# Altium footprint library sucaiku.PcbLib: 35 footprints (part 2 of 3)
Each footprint in its own frame and in the unit in brackets; x right, y up, seen from the top. Pads: shape width x height; smd on the part's side, far side on the other; paste and mask are expansions set on the pad; w line width, h text height; cw(c..) or ccw(c..) is an arc to the next point about the centre after c.
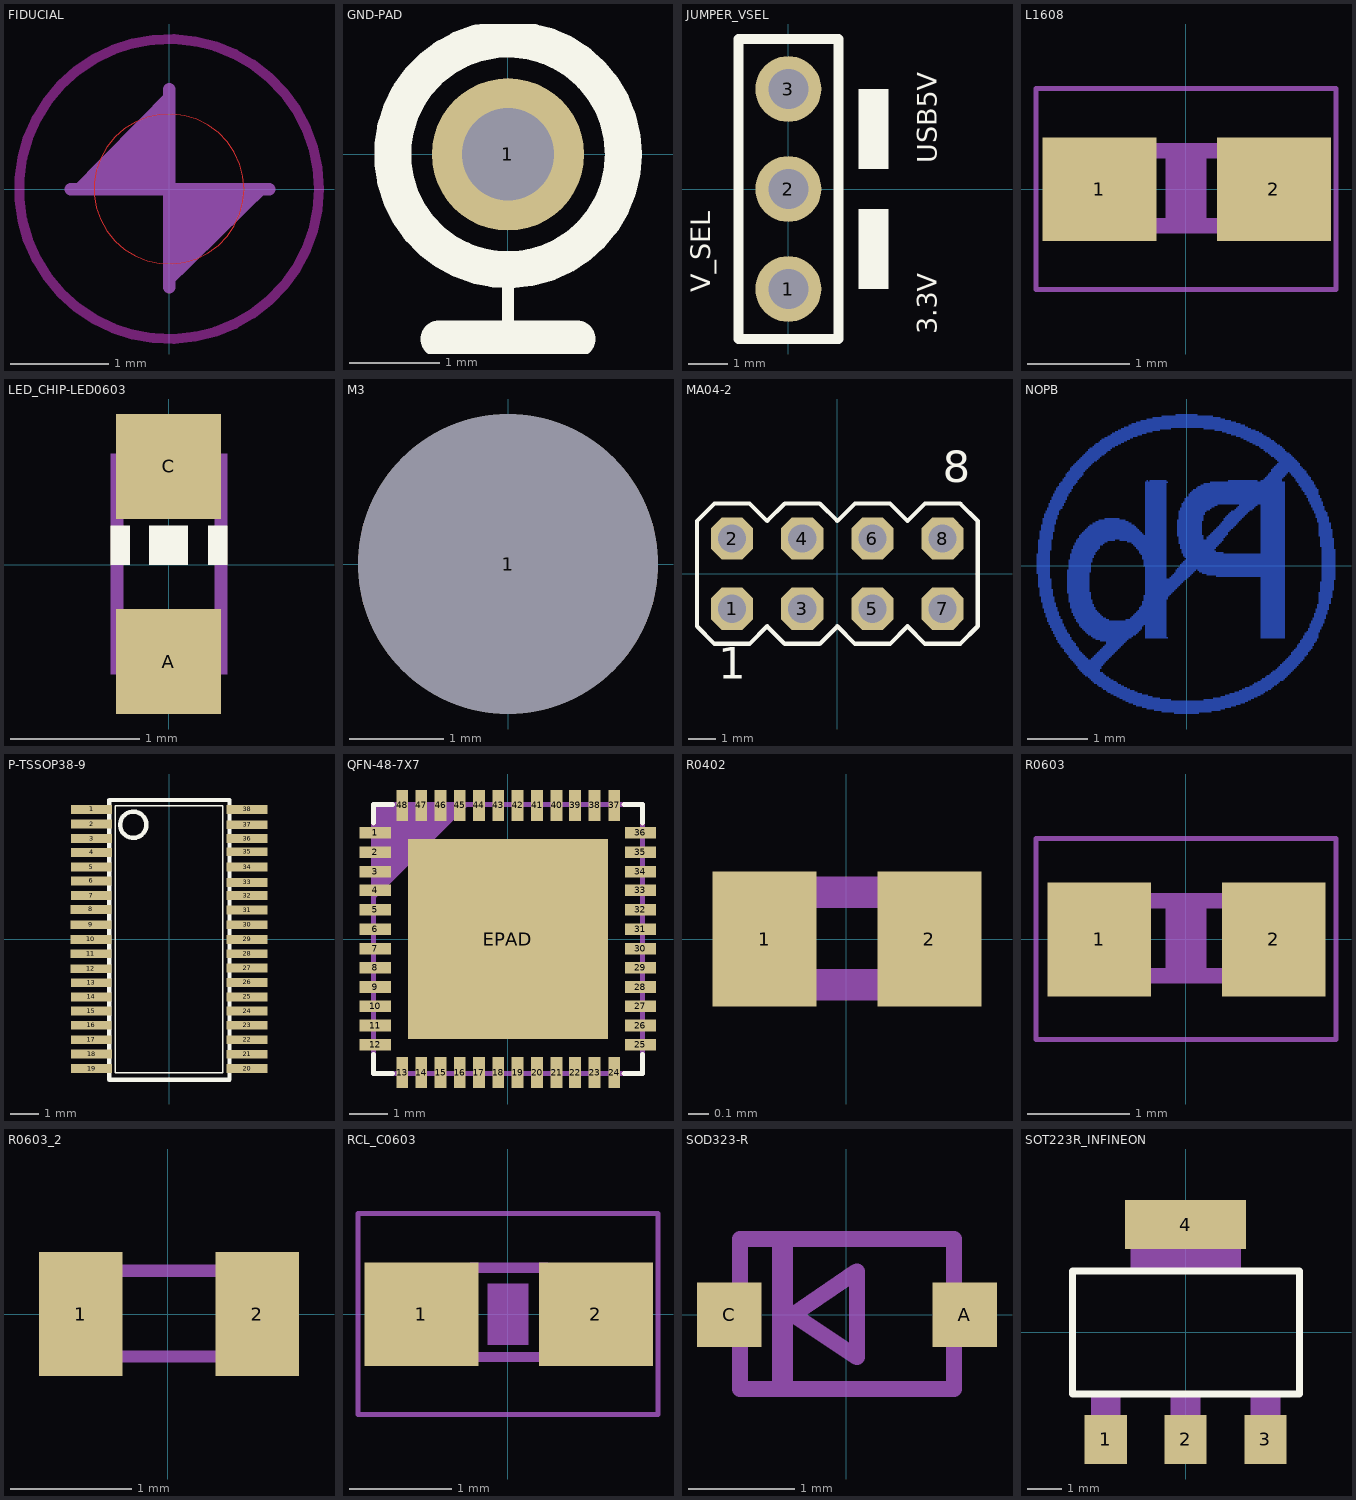
[diagram p1: the footprints below, top view; thin cyan lines are the x and y axes]

## FIDUCIAL [mil] "FIDUCIAL"
Top Layer:
  circle w0: c0,0 r30
Top Layer keep-out:
  circle w4: c0,0 r60
Top Solder:
  circle w0: c0,0 r60
Mechanical 16:
  region: -39.37,0 0,40 0,0
  region: 0,-39.37 40,0 0,0
  lines w5: -39.37,0 40,0 ; 0,-39.37 0,40

## GND-PAD [mil] "GND-PAD"
pads (1):
  round 66 hole 40: 1(0,0)
Top Overlay:
  circle w16: c0,0 r50
  lines w5: 0,-80 0,-45
  lines w16: -30,-80 30,-80
Mechanical 16:
  rectangle: -10,-10 10,10

## JUMPER_VSEL [mil] "JUMPER_VSEL"
pads (3):
  round 66 hole 40: 1(0,-100) 2(0,0) 3(0,100)
Top Overlay:
  region: 100,20 100,100 70,100 70,20
  region: 100,-100 100,-20 70,-20 70,-100
  lines w10: -50,-150 50,-150 50,150 -50,150 -50,-150
  text "V_SEL" at -71.53,-103.48 h34
  text "USB5V" at 155,26 h34
  text "3.3V" at 155,-145 h34
Mechanical 16:
  region: -10,10 -10,-10 10,-10 10,10
  region: -10,-90 -10,-110 10,-110 10,-90
  region: -10,110 -10,90 10,90 10,110

## L1608 [mil] "L1608"
pads (2):
  rect 44x40 smd: 1(-33.46,0) 2(34,0)
Mechanical 6:
  rectangle: -7.87,-15.75 8,16
Mechanical 16:
  rectangle: 17,-17 33,17
  rectangle: -33,-17 -17,17
  lines w6: -17.01,-14.02 18,-14.02 ; -17.01,15 18,15
Mechanical 27:
  lines w2: -57.99,-38.7 58,-38.7 58,39 -57.99,39 -57.99,-38.7

## LED_CHIP-LED0603 [mil] "LED_CHIP-LED0603"
pads (2):
  rect 32x32 smd: A(0,-29.53) C(0,30)
Top Overlay:
  rectangle: -17.72,0 -11.81,12
  rectangle: 12,0 18,12
  rectangle: -5.91,0 6,12
Mechanical 16:
  rectangle: -17.72,18 18,34
  rectangle: -17.72,-33.46 18,-17.72
  lines w4: -15.75,-17.72 -15.75,18 ; 16,-17.72 16,18

## M3 [mm]
pads (1):
  round 3.2 hole 3.2: 1(0,0)

## MA04-2 [mil] "MA04-2"
pads (8):
  oct 60x60 hole 40: 1(-150,-50) 2(-150,50) 3(-50,-50) 4(-50,50) 5(50,-50) 6(50,50) 7(150,-50) 8(150,50)
Top Overlay:
  lines w6: -200,-75 -200,75 -175,100 -125,100 -100,75 -75,100 -25,100 0,75 25,100 75,100 100,75 125,100 175,100 200,75 200,-75 175,-100 125,-100 100,-75 75,-100 25,-100 0,-75 -25,-100 -75,-100 -100,-75 -125,-100 -175,-100 -200,-75
  text "1" at -170,-165 h77.5
  text "8" at 150,115 h77.5
Mechanical 16:
  rectangle: -60,-60 -40,-40
  rectangle: -160,-60 -140,-40
  rectangle: 40,-60 60,-40
  rectangle: 140,-60 160,-40
  rectangle: -160,40 -140,60
  rectangle: -60,40 -40,60
  rectangle: 40,40 60,60
  rectangle: 140,40 160,60

## NOPB [mil] "NOPB"
Bottom Layer:
  rectangle: -8.49,-96.88 8,-95.9
  rectangle: -16.37,-95.89 16,-94.91
  rectangle: -21.28,-94.91 22,-93.93
  rectangle: -26.21,-93.93 25,-92.94
  rectangle: -29.16,-92.94 29,-91.96
  rectangle: -33.1,-91.96 32,-90.98
  rectangle: -35.06,-90.98 35,-89.99
  rectangle: -38.02,-89.99 38,-89
  rectangle: -39.98,-89.01 40,-88.02
  rectangle: -41.96,-88.02 -10.46,-87.04
  rectangle: 11,-88.02 42,-87.04
  rectangle: -43.93,-87.04 -17.35,-86.05
  rectangle: 17,-87.04 44,-86.05
  rectangle: -45.89,-86.06 -22.27,-85.07
  rectangle: 22,-86.05 46,-85.07
  rectangle: -47.86,-85.07 -25.22,-84.09
  rectangle: 25,-85.07 48,-84.08
  rectangle: -49.83,-84.08 -29.17,-83.1
  rectangle: 28,-84.09 50,-83.1
  rectangle: -51.8,-83.1 -32.12,-82.11
  rectangle: 31,-83.1 51,-82.11
  rectangle: -52.78,-82.12 -34.08,-81.13
  rectangle: 34,-82.11 53,-81.13
  rectangle: -54.75,-81.13 -37.04,-80.15
  rectangle: 36,-81.13 55,-80.15
  rectangle: -55.74,-80.15 -39.01,-79.16
  rectangle: 38,-80.15 56,-79.16
  rectangle: -57.7,-79.16 -40.97,-78.18
  rectangle: 41,-79.16 57,-78.18
  rectangle: -58.69,-78.18 -42.94,-77.2
  rectangle: 43,-78.18 59,-77.19
  rectangle: -60.66,-77.19 -44.91,-76.21
  rectangle: 44,-77.2 60,-76.21
  rectangle: -61.65,-76.21 -45.9,-75.23
  rectangle: 46,-76.21 61,-75.22
  rectangle: -62.63,-75.23 -47.86,-74.24
  rectangle: 48,-75.23 63,-74.24
  rectangle: -63.61,-74.25 -49.83,-73.26
  rectangle: 49,-74.24 64,-73.26
  rectangle: -64.59,-73.26 -50.81,-72.27
  rectangle: 51,-73.26 65,-72.28
  rectangle: -66.57,-72.28 -52.79,-71.29
  rectangle: 52,-72.28 66,-71.29
  rectangle: -67.54,-71.29 -53.76,-70.3
  rectangle: 54,-71.29 67,-70.31
  rectangle: -68.53,-70.31 -54.75,-69.32
  rectangle: 55,-70.3 68,-69.32
  rectangle: -69.52,-69.32 -56.72,-68.34
  rectangle: 56,-69.32 69,-68.33
  rectangle: -70.5,-68.34 -56.72,-67.35
  rectangle: 58,-68.34 70,-67.35
  rectangle: -71.48,-67.35 -55.74,-66.37
  rectangle: 59,-67.35 71,-66.37
  rectangle: -71.49,-66.37 -55.74,-65.39
  rectangle: 60,-66.37 72,-65.39
  rectangle: -72.47,-65.39 -54.76,-64.4
  rectangle: 61,-65.38 73,-64.4
  rectangle: -73.45,-64.4 -53.77,-63.42
  rectangle: 62,-64.4 74,-63.41
  rectangle: -74.44,-63.42 -52.78,-62.43
  rectangle: 63,-63.41 75,-62.43
  rectangle: -75.42,-62.43 -51.8,-61.45
  rectangle: 64,-62.43 76,-61.44
  rectangle: -76.41,-61.44 -64.59,-60.46
  rectangle: -62.62,-61.44 -50.81,-60.46
  rectangle: 65,-61.44 77,-60.46
  rectangle: -77.39,-60.46 -65.58,-59.48
  rectangle: -61.65,-60.46 -49.83,-59.48
  rectangle: 66,-60.46 77,-59.48
  rectangle: -77.39,-59.48 -66.56,-58.49
  rectangle: -60.65,-59.48 -48.84,-58.49
  rectangle: 67,-59.48 78,-58.49
  rectangle: -78.38,-58.49 -67.55,-57.51
  rectangle: -59.67,-58.5 -47.86,-57.51
  rectangle: 68,-58.49 79,-57.51
  rectangle: -79.36,-57.52 -68.54,-56.53
  rectangle: -58.69,-57.51 -46.87,-56.52
  rectangle: 68,-57.51 79,-56.53
  rectangle: -80.34,-56.53 -69.52,-55.54
  rectangle: -57.71,-56.53 -45.9,-55.54
  rectangle: 69,-56.52 80,-55.54
  rectangle: -80.34,-55.54 -70.5,-54.56
  rectangle: -56.72,-55.54 -44.91,-54.56
  rectangle: 70,-55.54 81,-54.56
  rectangle: -81.33,-54.56 -70.5,-53.57
  rectangle: -55.74,-54.56 -43.93,-53.57
  rectangle: 71,-54.56 82,-53.57
  rectangle: -82.31,-53.58 -71.49,-52.59
  rectangle: -54.75,-53.58 -42.94,-52.59
  rectangle: 72,-53.57 82,-52.59
  rectangle: -82.31,-52.59 -72.47,-51.6
  rectangle: -53.77,-52.59 -41.96,-51.6
  rectangle: 72,-52.59 83,-51.61
  rectangle: -83.3,-51.6 -72.47,-50.62
  rectangle: -52.78,-51.6 -40.97,-50.62
  rectangle: 73,-51.6 83,-50.61
  rectangle: -84.28,-50.62 -73.45,-49.64
  rectangle: -52.78,-50.62 -39.99,-49.64
  rectangle: 74,-50.62 84,-49.64
  rectangle: -84.28,-49.64 -74.44,-48.65
  rectangle: -56.72,-49.63 -39.01,-48.65
  rectangle: 74,-49.64 85,-48.65
  rectangle: -85.26,-48.65 -75.42,-47.67
  rectangle: -59.67,-48.65 -38.02,-47.67
  rectangle: 75,-48.65 85,-47.67
  rectangle: -85.26,-47.67 -75.42,-46.69
  rectangle: -61.64,-47.67 -36.05,-46.68
  rectangle: -27.19,-47.67 -12.43,-46.69
  rectangle: 48,-47.67 64,-46.68
  rectangle: 76,-47.67 86,-46.68
  rectangle: -86.25,-46.68 -76.41,-45.7
  rectangle: -62.63,-46.69 -35.07,-45.7
  rectangle: -27.2,-46.69 -13.42,-45.7
  rectangle: 48,-46.68 64,-45.7
  rectangle: 76,-46.69 86,-45.7
  rectangle: -86.25,-45.7 -76.41,-44.72
  rectangle: -64.59,-45.7 -33.09,-44.71
  rectangle: -27.2,-45.7 -13.42,-44.71
  rectangle: 48,-45.7 64,-44.72
  rectangle: 77,-45.7 86,-44.71
  rectangle: -87.23,-44.71 -77.39,-43.73
  rectangle: -65.58,-44.72 -32.11,-43.73
  rectangle: -27.2,-44.72 -13.42,-43.74
  rectangle: 48,-44.72 64,-43.73
  rectangle: 77,-44.71 86,-43.73
  rectangle: -87.23,-43.73 -78.37,-42.75
  rectangle: -66.56,-43.73 -31.13,-42.74
  rectangle: -27.19,-43.73 -13.41,-42.75
  rectangle: 48,-43.73 64,-42.74
  rectangle: 78,-43.74 87,-42.75
  rectangle: -88.22,-42.75 -78.37,-41.77
  rectangle: -67.55,-42.75 -30.15,-41.76
  rectangle: -27.2,-42.75 -13.42,-41.77
  rectangle: 48,-42.75 64,-41.76
  rectangle: 79,-42.74 87,-41.76
  rectangle: -88.22,-41.76 -79.36,-40.78
  rectangle: -68.53,-41.76 -29.16,-40.78
  rectangle: -27.2,-41.76 -13.42,-40.78
  rectangle: 48,-41.76 64,-40.78
  rectangle: 79,-41.76 88,-40.78
  rectangle: -89.2,-40.78 -79.36,-39.79
  rectangle: -69.52,-40.78 -29.17,-39.79
  rectangle: -27.19,-40.78 -13.41,-39.79
  rectangle: 48,-40.78 64,-39.79
  rectangle: 80,-40.78 88,-39.8
  rectangle: -89.2,-39.8 -80.35,-38.81
  rectangle: -70.5,-39.8 -28.18,-38.81
  rectangle: -27.19,-39.8 -13.41,-38.81
  rectangle: 48,-39.8 64,-38.81
  rectangle: 80,-39.8 89,-38.81
  rectangle: -90.19,-38.81 -80.34,-37.83
  rectangle: -70.5,-38.81 -13.41,-37.83
  rectangle: 48,-38.81 64,-37.83
  rectangle: 80,-38.81 89,-37.83
  rectangle: -90.19,-37.83 -81.33,-36.84
  rectangle: -71.48,-37.83 -13.41,-36.85
  rectangle: 48,-37.82 64,-36.84
  rectangle: 81,-37.82 90,-36.84
  rectangle: -91.17,-36.85 -81.33,-35.86
  rectangle: -72.47,-36.84 -13.41,-35.86
  rectangle: 48,-36.84 64,-35.85
  rectangle: 81,-36.84 90,-35.85
  rectangle: -91.17,-35.85 -81.33,-34.87
  rectangle: -72.47,-35.86 -50.82,-34.87
  rectangle: -39.99,-35.85 -13.41,-34.87
  rectangle: 48,-35.86 64,-34.87
  rectangle: 82,-35.86 90,-34.87
  rectangle: -91.17,-34.87 -82.31,-33.89
  rectangle: -73.45,-34.87 -52.78,-33.89
  rectangle: -37.04,-34.87 -13.41,-33.89
  rectangle: 48,-34.87 64,-33.89
  rectangle: 82,-34.87 91,-33.89
  rectangle: -92.15,-33.89 -82.31,-32.91
  rectangle: -73.45,-33.89 -54.75,-32.91
  rectangle: -36.05,-33.89 -13.41,-32.91
  rectangle: 48,-33.89 64,-32.9
  rectangle: 83,-33.89 91,-32.91
  rectangle: -92.15,-32.9 -83.29,-31.92
  rectangle: -74.44,-32.9 -55.74,-31.92
  rectangle: -35.07,-32.91 -13.42,-31.92
  rectangle: 48,-32.91 64,-31.92
  rectangle: 83,-32.9 91,-31.92
  rectangle: -92.15,-31.92 -83.3,-30.94
  rectangle: -74.44,-31.92 -56.72,-30.93
  rectangle: -34.08,-31.92 -13.41,-30.94
  rectangle: 48,-31.92 64,-30.94
  rectangle: 83,-31.92 92,-30.94
  rectangle: -93.14,-30.94 -83.3,-29.95
  rectangle: -75.43,-30.94 -57.71,-29.96
  rectangle: -33.1,-30.93 -13.41,-29.95
  rectangle: 48,-30.94 64,-29.95
  rectangle: 84,-30.94 92,-29.95
  rectangle: -93.14,-29.95 -84.28,-28.97
  rectangle: -75.43,-29.95 -58.69,-28.97
  rectangle: -32.11,-29.95 -13.41,-28.97
  rectangle: 48,-29.95 64,-28.97
  rectangle: 84,-29.96 92,-28.97
  rectangle: -93.14,-28.97 -84.28,-27.98
  rectangle: -75.42,-28.97 -59.67,-27.99
  rectangle: -31.13,-28.97 -13.42,-27.99
  rectangle: 48,-28.97 64,-27.98
  rectangle: 84,-28.97 93,-27.99
  rectangle: -94.12,-27.98 -84.28,-27
  rectangle: -76.41,-27.98 -59.68,-27
  rectangle: -31.13,-27.98 -13.42,-27
  rectangle: 48,-27.98 64,-27
  rectangle: 85,-27.98 93,-27
  rectangle: -94.12,-27 -85.26,-26.02
  rectangle: -76.41,-27 -60.66,-26.02
  rectangle: -30.14,-27 -13.41,-26.01
  rectangle: 48,-27 64,-26.01
  rectangle: 85,-27 93,-26.02
  rectangle: -94.12,-26.02 -85.26,-25.03
  rectangle: -76.41,-26.02 -60.66,-25.03
  rectangle: -29.16,-26.02 -13.41,-25.03
  rectangle: 48,-26.02 64,-25.03
  rectangle: 85,-26.02 93,-25.03
  rectangle: -94.12,-25.03 -85.26,-24.05
  rectangle: -76.41,-25.03 -61.64,-24.05
  rectangle: -29.16,-25.04 -13.41,-24.05
  rectangle: 48,-25.03 64,-24.05
  rectangle: 86,-25.03 94,-24.05
  rectangle: -95.11,-24.05 -86.25,-23.06
  rectangle: -77.39,-24.05 -61.64,-23.06
  rectangle: -29.16,-24.05 -13.41,-23.06
  rectangle: 48,-24.05 64,-23.06
  rectangle: 86,-24.05 94,-23.07
  rectangle: -95.11,-23.06 -86.25,-22.08
  rectangle: -77.39,-23.06 -61.65,-22.08
  rectangle: -28.18,-23.06 -13.41,-22.08
  rectangle: 48,-23.06 64,-22.08
  rectangle: 86,-23.06 94,-22.08
  rectangle: -95.11,-22.08 -86.25,-21.09
  rectangle: -77.39,-22.08 -62.63,-21.1
  rectangle: -28.18,-22.08 -12.43,-21.09
  rectangle: 48,-22.08 64,-21.09
  rectangle: 86,-22.08 94,-21.09
  rectangle: -95.11,-21.09 -86.25,-20.11
  rectangle: -77.39,-21.09 -62.63,-20.11
  rectangle: -28.18,-21.09 -12.43,-20.11
  rectangle: 48,-21.09 64,-20.11
  rectangle: 86,-21.09 95,-20.11
  rectangle: -96.09,-20.11 -87.23,-19.13
  rectangle: -77.38,-20.11 -62.62,-19.13
  rectangle: -28.18,-20.11 -11.44,-19.12
  rectangle: 48,-20.11 64,-19.13
  rectangle: 86,-20.1 95,-19.12
  rectangle: -96.09,-19.12 -87.24,-18.14
  rectangle: -77.39,-19.13 -62.63,-18.14
  rectangle: -27.19,-19.13 -10.46,-18.14
  rectangle: 48,-19.12 64,-18.14
  rectangle: 86,-19.13 95,-18.14
  rectangle: -96.09,-18.14 -87.23,-17.16
  rectangle: -78.38,-18.15 -62.63,-17.16
  rectangle: -27.2,-18.14 -9.48,-17.16
  rectangle: 48,-18.14 64,-17.16
  rectangle: 86,-18.14 95,-17.15
  rectangle: -96.09,-17.16 -87.23,-16.17
  rectangle: -78.37,-17.16 -63.61,-16.17
  rectangle: -27.19,-17.16 -8.49,-16.17
  rectangle: 48,-17.16 64,-16.17
  rectangle: 87,-17.16 95,-16.17
  rectangle: -96.09,-16.17 -87.23,-15.19
  rectangle: -78.37,-16.17 -63.61,-15.19
  rectangle: -27.19,-16.17 -7.51,-15.19
  rectangle: 48,-16.17 64,-15.19
  rectangle: 87,-16.17 96,-15.19
  rectangle: -96.09,-15.19 -88.22,-14.2
  rectangle: -78.37,-15.19 -63.61,-14.2
  rectangle: -27.19,-15.19 -6.52,-14.2
  rectangle: 48,-15.19 64,-14.2
  rectangle: 87,-15.19 96,-14.2
  rectangle: -97.07,-14.2 -88.22,-13.22
  rectangle: -78.37,-14.2 -63.61,-13.22
  rectangle: -27.2,-14.2 -5.54,-13.22
  rectangle: 48,-14.2 64,-13.22
  rectangle: 87,-14.2 96,-13.22
  rectangle: -97.07,-13.22 -88.22,-12.24
  rectangle: -78.38,-13.22 -63.61,-12.24
  rectangle: -27.19,-13.22 -4.56,-12.24
  rectangle: 48,-13.22 64,-12.24
  rectangle: 87,-13.22 96,-12.24
  rectangle: -97.07,-12.23 -88.22,-11.25
  rectangle: -78.38,-12.24 -63.61,-11.25
  rectangle: -27.19,-12.24 -3.57,-11.25
  rectangle: 48,-12.24 64,-11.25
  rectangle: 87,-12.23 96,-11.25
  rectangle: -97.08,-11.25 -88.22,-10.27
  rectangle: -78.37,-11.25 -63.61,-10.27
  rectangle: -27.2,-11.25 -2.59,-10.26
  rectangle: 48,-11.25 64,-10.27
  rectangle: 87,-11.25 96,-10.27
  rectangle: -97.07,-10.26 -88.22,-9.28
  rectangle: -78.37,-10.26 -63.61,-9.28
  rectangle: -27.19,-10.27 -1.6,-9.28
  rectangle: 48,-10.27 64,-9.28
  rectangle: 88,-10.27 96,-9.28
  rectangle: -97.07,-9.28 -88.22,-8.3
  rectangle: -78.38,-9.28 -63.61,-8.3
  rectangle: -27.19,-9.28 -0.61,-8.3
  rectangle: 48,-9.28 64,-8.3
  rectangle: 88,-9.28 97,-8.3
  rectangle: -97.07,-8.3 -89.2,-7.32
  rectangle: -78.38,-8.3 -63.61,-7.32
  rectangle: -27.2,-8.3 -13.42,-7.32
  rectangle: -11.44,-8.3 1,-7.32
  rectangle: 48,-8.3 64,-7.32
  rectangle: 88,-8.3 97,-7.32
  rectangle: -97.07,-7.31 -89.2,-6.33
  rectangle: -78.37,-7.31 -63.61,-6.33
  rectangle: -27.19,-7.32 -13.41,-6.33
  rectangle: -10.46,-7.32 2,-6.33
  rectangle: 19,-7.31 64,-6.33
  rectangle: 88,-7.32 97,-6.33
  rectangle: -97.07,-6.33 -89.2,-5.34
  rectangle: -78.37,-6.32 -63.61,-5.34
  rectangle: -27.2,-6.33 -13.42,-5.35
  rectangle: -9.48,-6.33 3,-5.34
  rectangle: 13,-6.33 64,-5.35
  rectangle: 88,-6.33 97,-5.34
  rectangle: -98.06,-5.34 -89.2,-4.36
  rectangle: -78.38,-5.35 -63.61,-4.36
  rectangle: -27.19,-5.35 -13.41,-4.36
  rectangle: -8.49,-5.35 4,-4.36
  rectangle: 10,-5.34 64,-4.36
  rectangle: 88,-5.34 97,-4.36
  rectangle: -98.06,-4.37 -89.2,-3.38
  rectangle: -78.38,-4.36 -62.63,-3.37
  rectangle: -27.19,-4.36 -13.41,-3.37
  rectangle: -7.51,-4.36 5,-3.38
  rectangle: 8,-4.36 64,-3.37
  rectangle: 88,-4.36 97,-3.38
  rectangle: -98.06,-3.37 -89.2,-2.39
  rectangle: -78.38,-3.37 -62.63,-2.39
  rectangle: -27.19,-3.38 -13.41,-2.39
  rectangle: -7.51,-3.37 6,-2.39
  rectangle: 7,-3.37 64,-2.39
  rectangle: 88,-3.38 97,-2.39
  rectangle: -98.06,-2.39 -89.2,-1.41
  rectangle: -77.39,-2.39 -62.63,-1.41
  rectangle: -27.2,-2.39 -13.42,-1.41
  rectangle: -6.52,-2.39 64,-1.4
  rectangle: 88,-2.39 97,-1.41
  rectangle: -98.06,-1.41 -89.2,-0.42
  rectangle: -77.39,-1.41 -62.63,-0.42
  rectangle: -27.2,-1.41 -13.42,-0.42
  rectangle: -5.54,-1.41 64,-0.42
  rectangle: 88,-1.41 97,-0.42
  rectangle: -98.06,-0.43 -89.2,1
  rectangle: -77.39,-0.42 -62.63,1
  rectangle: -28.18,-0.42 -13.42,1
  rectangle: -4.56,-0.43 64,1
  rectangle: 88,-0.42 97,1
  rectangle: -98.06,1 -89.2,2
  rectangle: -77.39,1 -62.63,2
  rectangle: -28.18,1 -13.41,2
  rectangle: -3.57,1 64,2
  rectangle: 88,1 97,2
  rectangle: -98.06,2 -89.2,3
  rectangle: -77.39,2 -61.65,3
  rectangle: -28.18,2 -13.41,3
  rectangle: -2.59,2 64,3
  rectangle: 88,2 97,3
  rectangle: -98.06,3 -89.2,4
  rectangle: -77.39,3 -61.64,4
  rectangle: -28.18,3 -13.42,4
  rectangle: -1.6,3 64,4
  rectangle: 88,3 97,4
  rectangle: -98.06,4 -89.2,5
  rectangle: -76.41,4 -61.64,5
  rectangle: -29.16,4 -13.41,5
  rectangle: -0.62,4 64,5
  rectangle: 88,4 97,5
  rectangle: -98.06,5 -89.2,6
  rectangle: -76.41,5 -60.66,6
  rectangle: -29.16,5 -13.41,6
  rectangle: -1.6,5 64,6
  rectangle: 88,5 97,6
  rectangle: -98.06,6 -89.2,7
  rectangle: -76.41,6 -60.66,7
  rectangle: -29.16,6 -13.41,7
  rectangle: -2.59,6 64,7
  rectangle: 88,6 97,7
  rectangle: -98.06,7 -89.2,8
  rectangle: -76.41,7 -59.67,8
  rectangle: -30.15,7 -13.41,8
  rectangle: -2.59,7 64,8
  rectangle: 88,7 97,8
  rectangle: -97.07,8 -89.2,9
  rectangle: -75.43,8 -59.68,9
  rectangle: -31.13,8 -13.42,9
  rectangle: -3.57,8 24,9
  rectangle: 48,8 64,9
  rectangle: 88,8 97,9
  rectangle: -97.07,9 -89.2,10
  rectangle: -75.42,9 -58.69,10
  rectangle: -31.14,9 -13.42,10
  rectangle: -3.57,9 19,10
  rectangle: 48,9 64,10
  rectangle: 88,9 97,10
  rectangle: -97.08,10 -88.22,11
  rectangle: -75.43,10 -57.71,11
  rectangle: -32.11,10 -13.41,11
  rectangle: -3.57,10 18,11
  rectangle: 48,10 64,11
  rectangle: 88,10 97,11
  rectangle: -97.07,11 -88.22,12
  rectangle: -74.44,11 -56.72,12
  rectangle: -33.1,11 -13.41,12
  rectangle: -4.56,11 19,12
  rectangle: 48,11 64,12
  rectangle: 88,11 96,12
  rectangle: -97.07,12 -88.22,13
  rectangle: -74.44,12 -56.72,13
  rectangle: -34.08,12 -13.41,13
  rectangle: -4.56,12 20,13
  rectangle: 48,12 64,13
  rectangle: 87,12 96,13
  rectangle: -97.08,13 -88.22,14
  rectangle: -73.45,13 -54.75,14
  rectangle: -35.07,13 -13.42,14
  rectangle: -4.56,13 21,14
  rectangle: 48,13 64,14
  rectangle: 87,13 96,14
  rectangle: -97.07,14 -88.22,15
  rectangle: -73.45,14 -53.77,15
  rectangle: -36.06,14 -13.42,15
  rectangle: -5.54,14 22,15
  rectangle: 48,14 64,15
  rectangle: 87,14 96,15
  rectangle: -97.08,15 -88.22,16
  rectangle: -72.47,15 -51.8,16
  rectangle: -39,15 -13.41,16
  rectangle: -5.54,15 23,16
  rectangle: 48,15 64,16
  rectangle: 87,15 96,16
  rectangle: -97.07,16 -88.22,17
  rectangle: -72.47,16 -46.88,17
  rectangle: -43.93,16 -13.41,17
  rectangle: -5.54,16 24,17
  rectangle: 48,16 64,17
  rectangle: 87,16 96,17
  rectangle: -96.09,17 -87.23,18
  rectangle: -71.48,17 -13.41,18
  rectangle: -5.54,17 11,18
  rectangle: 13,17 24,18
  rectangle: 48,17 64,18
  rectangle: 87,17 96,18
  rectangle: -96.09,18 -87.23,19
  rectangle: -70.5,18 -13.41,19
  rectangle: -5.54,18 11,19
  rectangle: 13,18 25,19
  rectangle: 48,18 64,19
  rectangle: 87,18 95,19
  rectangle: -96.09,19 -87.23,20
  rectangle: -70.5,19 -13.41,20
  rectangle: -6.52,19 11,20
  rectangle: 14,19 26,20
  rectangle: 48,19 64,20
  rectangle: 86,19 95,20
  rectangle: -96.09,20 -87.23,21
  rectangle: -69.52,20 -28.18,21
  rectangle: -27.2,20 -13.42,21
  rectangle: -6.52,20 10,21
  rectangle: 15,20 27,21
  rectangle: 48,20 64,21
  rectangle: 86,20 95,21
  rectangle: -96.09,21 -87.24,22
  rectangle: -68.53,21 -29.16,22
  rectangle: -27.19,21 -13.41,22
  rectangle: -6.53,21 10,22
  rectangle: 16,21 27,22
  rectangle: 48,21 64,22
  rectangle: 86,21 95,22
  rectangle: -96.09,22 -86.25,23
  rectangle: -67.55,22 -30.15,23
  rectangle: -27.2,22 -13.42,23
  rectangle: -6.52,22 10,23
  rectangle: 17,22 28,23
  rectangle: 48,22 64,23
  rectangle: 86,22 95,23
  rectangle: -95.11,23 -86.25,24
  rectangle: -66.56,23 -31.13,24
  rectangle: -27.2,23 -13.42,24
  rectangle: -6.52,23 10,24
  rectangle: 18,23 29,24
  rectangle: 48,23 64,24
  rectangle: 86,23 95,24
  rectangle: -95.11,24 -86.25,25
  rectangle: -65.58,24 -32.11,25
  rectangle: -27.2,24 -13.42,25
  rectangle: -6.52,24 10,25
  rectangle: 19,24 30,25
  rectangle: 48,24 64,25
  rectangle: 86,24 94,25
  rectangle: -95.11,25 -86.25,26
  rectangle: -64.59,25 -33.1,26
  rectangle: -27.19,25 -13.41,26
  rectangle: -6.53,25 10,26
  rectangle: 20,25 31,26
  rectangle: 48,25 64,26
  rectangle: 86,25 94,26
  rectangle: -95.11,26 -86.25,27
  rectangle: -63.61,26 -34.08,27
  rectangle: -27.2,26 -13.42,27
  rectangle: -6.52,26 10,27
  rectangle: 21,26 32,27
  rectangle: 48,26 64,27
  rectangle: 86,26 94,27
  rectangle: -94.12,27 -85.26,28
  rectangle: -61.64,27 -36.05,28
  rectangle: -27.19,27 -13.41,28
  rectangle: -6.53,27 10,28
  rectangle: 22,27 33,28
  rectangle: 48,27 64,28
  rectangle: 86,27 94,28
  rectangle: -94.12,28 -85.26,29
  rectangle: -59.67,28 -38.02,29
  rectangle: -27.2,28 -13.42,29
  rectangle: -6.52,28 10,29
  rectangle: 23,28 34,29
  rectangle: 48,28 64,29
  rectangle: 85,28 93,29
  rectangle: -94.12,29 -85.26,30
  rectangle: -57.7,29 -39.98,30
  rectangle: -27.2,29 -13.42,30
  rectangle: -6.52,29 11,30
  rectangle: 24,29 35,30
  rectangle: 48,29 64,30
  rectangle: 85,29 93,30
  rectangle: -94.13,30 -84.28,31
  rectangle: -53.77,30 -43.93,31
  rectangle: -27.19,30 -13.41,31
  rectangle: -5.54,30 11,31
  rectangle: 24,30 36,31
  rectangle: 48,30 64,31
  rectangle: 85,30 93,31
  rectangle: -93.14,31 -84.28,32
  rectangle: -27.19,31 -13.41,32
  rectangle: -5.54,31 11,32
  rectangle: 25,31 37,32
  rectangle: 48,31 64,32
  rectangle: 84,31 93,32
  rectangle: -93.14,32 -84.28,33
  rectangle: -27.2,32 -13.42,33
  rectangle: -5.54,32 11,33
  rectangle: 26,32 38,33
  rectangle: 48,32 64,33
  rectangle: 84,32 92,33
  rectangle: -93.14,33 -83.3,34
  rectangle: -27.2,33 -13.42,34
  rectangle: -5.54,33 12,34
  rectangle: 27,33 39,34
  rectangle: 48,33 64,34
  rectangle: 84,33 92,34
  rectangle: -92.15,34 -83.3,35
  rectangle: -27.19,34 -13.41,35
  rectangle: -5.54,34 12,35
  rectangle: 28,34 40,35
  rectangle: 48,34 64,35
  rectangle: 83,34 92,35
  rectangle: -92.15,35 -83.3,36
  rectangle: -27.19,35 -13.41,36
  rectangle: -5.54,35 13,36
  rectangle: 29,35 41,36
  rectangle: 48,35 64,36
  rectangle: 83,35 91,36
  rectangle: -91.17,36 -82.31,37
  rectangle: -27.19,36 -13.41,37
  rectangle: -4.56,36 15,37
  rectangle: 31,36 43,37
  rectangle: 48,36 64,37
  rectangle: 82,36 90,37
  rectangle: -91.17,37 -81.33,38
  rectangle: -27.2,37 -13.42,38
  rectangle: -4.56,37 16,38
  rectangle: 32,37 44,38
  rectangle: 48,37 64,38
  rectangle: 82,37 90,38
  rectangle: -90.19,38 -81.33,39
  rectangle: -27.2,38 -13.42,39
  rectangle: -3.57,38 18,39
  rectangle: 33,38 45,39
  rectangle: 48,38 64,39
  rectangle: 81,38 90,39
  rectangle: -90.19,39 -80.34,40
  rectangle: -27.19,39 -13.41,40
  rectangle: -3.57,39 20,40
  rectangle: 34,39 46,40
  rectangle: 48,39 64,40
  rectangle: 81,39 89,40
  rectangle: -90.19,40 -80.34,41
  rectangle: -27.19,40 -13.41,41
  rectangle: -3.57,40 64,41
  rectangle: 80,40 89,41
  rectangle: -89.2,41 -79.36,42
  rectangle: -27.2,41 -13.42,42
  rectangle: -2.59,41 64,42
  rectangle: 80,41 89,42
  rectangle: -89.2,42 -79.36,43
  rectangle: -27.2,42 -13.42,43
  rectangle: -1.6,42 64,43
  rectangle: 79,42 88,43
  rectangle: -88.22,43 -78.37,44
  rectangle: -27.19,43 -13.41,44
  rectangle: -1.6,43 64,44
  rectangle: 79,43 88,44
  rectangle: -88.22,44 -78.37,45
  rectangle: -27.19,44 -13.41,45
  rectangle: -0.62,44 64,45
  rectangle: 78,44 87,45
  rectangle: -87.23,45 -77.39,46
  rectangle: -27.2,45 -13.42,46
  rectangle: 1,45 64,46
  rectangle: 78,45 87,46
  rectangle: -87.23,46 -77.39,47
  rectangle: -27.2,46 -13.42,47
  rectangle: 1,46 64,47
  rectangle: 77,46 86,47
  rectangle: -86.25,47 -76.41,48
  rectangle: -27.2,47 -13.42,48
  rectangle: 2,47 64,48
  rectangle: 77,47 86,48
  rectangle: -86.25,48 -75.43,49
  rectangle: -27.2,48 -13.42,49
  rectangle: 3,48 64,49
  rectangle: 76,48 86,49
  rectangle: -85.26,49 -75.42,50
  rectangle: -27.2,49 -13.42,50
  rectangle: 4,49 64,50
  rectangle: 75,49 86,50
  rectangle: -85.27,50 -74.44,51
  rectangle: -27.19,50 -13.41,51
  rectangle: 6,50 64,51
  rectangle: 75,50 85,51
  rectangle: -84.28,51 -74.44,52
  rectangle: -27.2,51 -13.42,52
  rectangle: 7,51 64,52
  rectangle: 74,51 84,52
  rectangle: -83.3,52 -73.45,53
  rectangle: -27.2,52 -13.42,53
  rectangle: 9,52 64,53
  rectangle: 73,52 84,53
  rectangle: -83.29,53 -72.46,54
  rectangle: -27.19,53 -13.41,54
  rectangle: 11,53 64,54
  rectangle: 73,53 83,54
  rectangle: -82.31,54 -71.49,55
  rectangle: -27.2,54 -12.43,55
  rectangle: 15,54 64,55
  rectangle: 72,54 83,55
  rectangle: -81.33,55 -71.49,56
  rectangle: -26.21,55 -25.23,56
  rectangle: -24.24,55 -13.41,56
  rectangle: 27,55 46,56
  rectangle: 48,55 62,56
  rectangle: 71,55 82,56
  rectangle: -81.33,56 -70.5,57
  rectangle: 50,56 62,57
  rectangle: 71,56 81,57
  rectangle: -80.34,57 -69.52,58
  rectangle: 51,57 63,58
  rectangle: 70,57 81,58
  rectangle: -79.36,58 -68.53,59
  rectangle: 52,58 64,59
  rectangle: 69,58 80,59
  rectangle: -79.36,59 -67.55,60
  rectangle: 53,59 65,60
  rectangle: 68,59 79,60
  rectangle: -78.37,60 -67.55,61
  rectangle: 54,60 66,61
  rectangle: 67,60 78,61
  rectangle: -77.39,61 -66.56,62
  rectangle: 55,61 78,62
  rectangle: -76.41,62 -65.58,63
  rectangle: 55,62 77,63
  rectangle: -76.41,63 -64.59,64
  rectangle: 56,63 76,64
  rectangle: -75.43,64 -63.61,65
  rectangle: 57,64 75,65
  rectangle: -74.44,65 -62.63,66
  rectangle: 58,65 74,66
  rectangle: -73.45,66 -61.64,67
  rectangle: 59,66 74,67
  rectangle: -72.47,67 -60.66,68
  rectangle: 60,67 73,68
  rectangle: -71.49,68 -58.69,69
  rectangle: 59,68 72,69
  rectangle: -70.5,69 -57.7,70
  rectangle: 58,69 71,70
  rectangle: -69.52,70 -56.72,71
  rectangle: 57,70 70,71
  rectangle: -68.53,71 -55.74,72
  rectangle: 55,71 69,72
  rectangle: -67.55,72 -53.77,73
  rectangle: 54,72 68,73
  rectangle: -66.56,73 -52.78,74
  rectangle: 53,73 67,74
  rectangle: -65.58,74 -51.8,75
  rectangle: 51,74 65,75
  rectangle: -64.59,75 -49.83,76
  rectangle: 50,75 64,76
  rectangle: -63.61,76 -48.85,77
  rectangle: 48,76 63,77
  rectangle: -61.64,77 -46.88,78
  rectangle: 47,77 62,78
  rectangle: -60.66,78 -44.91,79
  rectangle: 45,78 61,79
  rectangle: -59.68,79 -42.94,80
  rectangle: 43,79 59,80
  rectangle: -57.71,80 -40.98,81
  rectangle: 41,80 58,81
  rectangle: -56.72,81 -39.01,82
  rectangle: 39,81 57,82
  rectangle: -55.74,82 -37.04,83
  rectangle: 37,82 55,83
  rectangle: -53.77,83 -35.07,84
  rectangle: 35,83 54,84
  rectangle: -51.8,84 -32.12,85
  rectangle: 32,84 52,85
  rectangle: -49.83,85 -29.17,86
  rectangle: 29,85 50,86
  rectangle: -48.85,86 -26.21,87
  rectangle: 26,86 49,87
  rectangle: -46.88,87 -22.27,88
  rectangle: 23,87 47,88
  rectangle: -44.91,88 -17.35,89
  rectangle: 18,88 45,89
  rectangle: -42.94,89 -10.46,90
  rectangle: 11,89 42,90
  rectangle: -40.97,90 40,91
  rectangle: -38.02,91 38,92
  rectangle: -36.05,92 35,93
  rectangle: -33.1,93 32,94
  rectangle: -30.15,94 29,95
  rectangle: -26.21,95 25,96
  rectangle: -22.27,96 22,97
  rectangle: -16.37,97 17,98
  rectangle: -7.51,98 7,99

## P-TSSOP38-9 [mil] "P-TSSOP38-9"
pads (38):
  rect 56x12 smd: 1(-106.21,178) 2(-106.21,158) 3(-106.21,138) 4(-106.21,119) 5(-106.61,99) 6(-106.61,80) 7(-106.61,60) 8(-107,41) 9(-107,20) 10(-107,-0.2) 11(-107,-19.68) 12(-107,-40.35) 13(-106.61,-59.45) 14(-106.61,-78.94) 15(-106.61,-98.43) 16(-106.61,-117.91) 17(-106.61,-137.8) 18(-106.21,-157.28) 19(-106.21,-177.17) 20(107,-177.17) 21(107,-157.5) 22(107,-137.8) 23(107,-117.91) 24(107,-98.43) 25(107,-78.94) 26(107,-59.06) 27(107,-39.35) 28(107,-19.68) 29(107,-0.2) 30(107,20) 31(107,40) 32(107,60) 33(107,78) 34(107,99) 35(107,120) 36(107,138) 37(107,157) 38(107,178)
Top Overlay:
  circle w6: c-48.97,157 r18
  lines w2: -73.79,-182.89 -73.79,183 74,183 74,-182.89 -73.79,-182.89
  lines w6: -82,-192.28 -82,191 83,191 83,-192.28 -82,-192.28
Mechanical 16:
  region: 83.5,63.5 83.5,55.5 116.5,55.5 116.5,63.5
  region: 83.5,82.5 83.5,74.5 116.5,74.5 116.5,82.5
  region: 83.5,102.5 83.5,94.5 116.5,94.5 116.5,102.5
  region: 83.5,123.5 83.5,115.5 116.5,115.5 116.5,123.5
  region: 83.5,142.5 83.5,134.5 116.5,134.5 116.5,142.5
  region: 83.5,161.5 83.5,153.5 116.5,153.5 116.5,161.5
  region: 83.5,181.5 83.5,173.5 116.5,173.5 116.5,181.5
  region: -115.39,181.5 -115.39,173.5 -82.39,173.5 -82.39,181.5
  region: -115.39,162.5 -115.39,154.5 -82.39,154.5 -82.39,162.5
  region: -115,142.5 -115,134.5 -82,134.5 -82,142.5
  region: -115,122.5 -115,114.5 -82,114.5 -82,122.5
  region: -114.61,102.5 -114.61,94.5 -81.61,94.5 -81.61,102.5
  region: -115,83.5 -115,75.5 -82,75.5 -82,83.5
  region: -115,63.5 -115,55.5 -82,55.5 -82,63.5
  region: -115,44.5 -115,36.5 -82,36.5 -82,44.5
  region: -115,24.5 -115,16.5 -82,16.5 -82,24.5
  region: -115.35,4.15 -115.35,-3.85 -81.65,-3.85 -81.65,4.15
  region: -115.39,-15.68 -115.39,-23.68 -82.39,-23.69 -82.39,-15.69
  region: -115.39,-36.35 -115.39,-44.35 -82.39,-44.35 -82.39,-36.35
  region: -115.39,-55.45 -115.39,-63.45 -82.39,-63.45 -82.39,-55.45
  region: -115,-75.33 -115,-83.33 -82,-83.33 -82,-75.33
  region: -115,-94.43 -115,-102.43 -82,-102.43 -82,-94.43
  region: -115,-114.31 -115,-122.31 -82,-122.31 -82,-114.31
  region: -115.18,-133.8 -115.18,-141.8 -82.18,-141.8 -82.18,-133.8
  region: -115.18,-153.28 -115.18,-161.28 -82.18,-161.28 -82.18,-153.28
  region: -114.39,-172.77 -114.39,-180.77 -81.39,-180.77 -81.39,-172.77
  region: 83.5,43.5 83.5,35.5 116.5,35.5 116.5,43.5
  region: 83.5,24.5 83.5,16.5 116.5,16.5 116.5,24.5
  region: 83.15,4.15 83.15,-3.85 116.85,-3.85 116.85,4.15
  region: 83.5,-15.68 83.5,-23.68 116.5,-23.69 116.5,-15.69
  region: 83.5,-35.75 83.5,-43.75 116.5,-43.75 116.5,-35.75
  region: 83.5,-55.06 83.5,-63.06 116.5,-63.06 116.5,-55.06
  region: 83.5,-74.94 83.5,-82.94 116.5,-82.94 116.5,-74.94
  region: 83.5,-94.43 83.5,-102.43 116.5,-102.43 116.5,-94.43
  region: 83.5,-113.91 83.5,-121.91 116.5,-121.91 116.5,-113.91
  region: 83.5,-133.8 83.5,-141.8 116.5,-141.8 116.5,-133.8
  region: 83.5,-153.89 83.5,-161.89 116.5,-161.89 116.5,-153.89
  region: 83.5,-172.77 83.5,-180.77 116.5,-180.77 116.5,-172.77

## QFN-48-7X7 [mil] "QFN-48-7X7"
pads (49):
  rect 32x12 smd: 1(-135.83,109) 2(-135.83,89) 3(-135.83,69) 4(-135.83,50) 5(-135.83,30) 6(-135.83,10) 7(-135.83,-9.84) 8(-135.83,-29.53) 9(-135.83,-49.21) 10(-135.83,-68.9) 11(-135.83,-88.58) 12(-135.83,-108.27) 25(136,-108.27) 26(136,-88.58) 27(136,-68.9) 28(136,-49.21) 29(136,-29.53) 30(136,-9.84) 31(136,10) 32(136,30) 33(136,50) 34(136,69) 35(136,89) 36(136,109)
  rect 12x32 smd: 13(-108.27,-136.81) 14(-88.58,-136.81) 15(-68.9,-136.81) 16(-49.21,-136.81) 17(-29.53,-136.81) 18(-9.84,-136.81) 19(10,-136.81) 20(30,-136.81) 21(50,-136.81) 22(69,-136.81) 23(89,-136.81) 24(109,-136.81) 37(109,137) 38(89,137) 39(69,137) 40(50,137) 41(30,137) 42(10,137) 43(-9.84,137) 44(-29.53,137) 45(-49.21,137) 46(-68.9,137) 47(-88.58,137) 48(-108.27,137)
  rect 205x205 smd: EPAD(0,0)
Top Overlay:
  lines w5: -137.8,-118.11 -137.8,-137.8 -118.11,-137.8 ; -137.8,119 -137.8,138 -118.11,138 ; 119,-137.8 138,-137.8 138,-118.11 ; 119,138 138,138 138,119
Top Paste:
  rectangle: -150.59,104 -121.06,114
  rectangle: -150.57,84 -121.04,94
  rectangle: -150.59,64 -121.06,74
  rectangle: -150.57,45 -121.04,55
  rectangle: -150.59,25 -121.06,35
  rectangle: -150.57,5 -121.04,15
  rectangle: -150.59,-14.76 -121.06,-4.92
  rectangle: -150.59,-34.45 -121.06,-24.61
  rectangle: -150.59,-54.13 -121.06,-44.29
  rectangle: -150.59,-73.82 -121.06,-63.98
  rectangle: -150.59,-93.5 -121.06,-83.66
  region: -83.66,-151.57 -83.66,-122.05 -93.5,-122.05 -93.5,-151.57
  region: -63.98,-151.57 -63.98,-122.05 -73.82,-122.05 -73.82,-151.57
  region: -44.29,-151.57 -44.29,-122.05 -54.13,-122.05 -54.13,-151.57
  region: -24.61,-151.57 -24.61,-122.05 -34.45,-122.05 -34.45,-151.57
  region: -4.88,-151.61 -4.88,-122.01 -14.72,-122.01 -14.72,-151.61
  region: 14.96,-151.77 14.96,-121.85 5.12,-121.85 5.12,-151.77
  region: 34.92,-151.81 34.92,-121.81 25.08,-121.81 25.08,-151.81
  region: 54.42,-151.31 54.42,-122.31 44.58,-122.31 44.58,-151.31
  region: 74.42,-151.31 74.42,-122.31 64.58,-122.31 64.58,-151.31
  region: 93.92,-151.81 93.92,-121.81 84.08,-121.81 84.08,-151.81
  region: 113.92,-151.81 113.92,-121.81 104.08,-121.81 104.08,-151.81
  region: 151,-103.35 122,-103.35 122,-113.19 151,-113.19
  region: 151,-83.66 122,-83.66 122,-93.5 151,-93.5
  region: 151,-63.98 122,-63.98 122,-73.82 151,-73.82
  region: 151,-44.29 122,-44.29 122,-54.13 151,-54.13
  region: 151,-24.61 122,-24.61 122,-34.45 151,-34.45
  region: 151,-4.92 122,-4.92 122,-14.76 151,-14.76
  region: 151,15 122,15 122,5 151,5
  region: 151,35 122,35 122,25 151,25
  region: 151,55 122,55 122,45 151,45
  region: 151,74 122,74 122,64 151,64
  region: 151,94 122,94 122,84 151,84
  region: 84,152 84,122 94,122 94,152
  region: 64.5,151.5 64.5,122.5 74.5,122.5 74.5,151.5
  region: 44.5,151.5 44.5,122.5 54.5,122.5 54.5,151.5
  region: 25,152 25,122 35,122 35,152
  region: 5.04,151.96 5.04,122.04 15.04,122.04 15.04,151.96
  region: -14.8,151.8 -14.8,122.2 -4.8,122.2 -4.8,151.8
  region: -34.53,151.76 -34.53,122.24 -24.53,122.24 -24.53,151.76
  region: -54.21,151.76 -54.21,122.24 -44.21,122.24 -44.21,151.76
  region: -73.9,151.76 -73.9,122.24 -63.9,122.24 -63.9,151.76
  region: -93.58,151.76 -93.58,122.24 -83.58,122.24 -83.58,151.76
  region: 104,152 104,122 114,122 114,152
  region: 151,114 122,114 122,104 151,104
  rectangle: -150.59,-113.19 -121.06,-103.35
  region: -103.35,-151.57 -103.35,-122.05 -113.19,-122.05 -113.19,-151.57
  region: -113.27,151.76 -113.27,122.24 -103.27,122.24 -103.27,151.76
  rectangle: -90.55,-90.55 91,91
Top Solder:
  rectangle: -153.54,101 -118.11,117
  rectangle: -153.54,81 -118.11,97
  rectangle: -153.54,62 -118.11,77
  rectangle: -153.54,42 -118.11,58
  rectangle: -153.54,22 -118.11,38
  rectangle: -153.54,2 -118.11,18
  rectangle: -153.54,-17.72 -118.11,-1.97
  rectangle: -153.54,-37.4 -118.11,-21.65
  rectangle: -153.54,-57.09 -118.11,-41.34
  rectangle: -153.54,-76.77 -118.11,-61.02
  rectangle: -153.54,-96.46 -118.11,-80.71
  region: -80.71,-154.53 -80.71,-119.09 -96.46,-119.09 -96.46,-154.53
  region: -61.02,-154.53 -61.02,-119.09 -76.77,-119.09 -76.77,-154.53
  region: -41.34,-154.53 -41.34,-119.09 -57.09,-119.09 -57.09,-154.53
  region: -21.65,-154.53 -21.65,-119.09 -37.4,-119.09 -37.4,-154.53
  region: -1.91,-154.59 -1.91,-119.03 -17.65,-119.03 -17.65,-154.59
  region: 17.94,-154.75 17.94,-118.87 2.19,-118.87 2.19,-154.75
  region: 37.87,-154.81 37.87,-118.81 22.13,-118.81 22.13,-154.81
  region: 57.37,-154.31 57.37,-119.31 41.63,-119.31 41.63,-154.31
  region: 77.37,-154.31 77.37,-119.31 61.63,-119.31 61.63,-154.31
  region: 96.87,-154.81 96.87,-118.81 81.13,-118.81 81.13,-154.81
  region: 116.37,-154.31 116.37,-119.31 100.63,-119.31 100.63,-154.31
  region: 154,-100.39 119,-100.39 119,-116.14 154,-116.14
  region: 154,-80.71 119,-80.71 119,-96.46 154,-96.46
  region: 154,-61.02 119,-61.02 119,-76.77 154,-76.77
  region: 154,-41.34 119,-41.34 119,-57.09 154,-57.09
  region: 154,-21.65 119,-21.65 119,-37.4 154,-37.4
  region: 154,-1.97 119,-1.97 119,-17.72 154,-17.72
  region: 154,18 119,18 119,2 154,2
  region: 154,38 119,38 119,22 154,22
  region: 154,58 119,58 119,42 154,42
  region: 154,77 119,77 119,62 154,62
  region: 154,97 119,97 119,81 154,81
  region: 81,155 81,119 97,119 97,155
  region: 61.5,154.5 61.5,119.5 77.5,119.5 77.5,154.5
  region: 41.5,154.5 41.5,119.5 57.5,119.5 57.5,154.5
  region: 22,155 22,119 38,119 38,155
  region: 2.06,154.94 2.06,119.06 18.06,119.06 18.06,154.94
  region: -17.78,154.78 -17.78,119.22 -1.78,119.22 -1.78,154.78
  region: -37.53,154.72 -37.53,119.28 -21.53,119.28 -21.53,154.72
  region: -57.21,154.72 -57.21,119.28 -41.21,119.28 -41.21,154.72
  region: -76.9,154.72 -76.9,119.28 -60.9,119.28 -60.9,154.72
  region: -96.58,154.72 -96.58,119.28 -80.58,119.28 -80.58,154.72
  region: 100.5,154.5 100.5,119.5 116.5,119.5 116.5,154.5
  region: 154,117 119,117 119,101 154,101
  rectangle: -153.54,-116.14 -118.11,-100.39
  region: -100.39,-154.53 -100.39,-119.09 -116.14,-119.09 -116.14,-154.53
  region: -116.27,154.72 -116.27,119.28 -100.27,119.28 -100.27,154.72
Mechanical 16:
  region: -137.8,138 -137.8,40 -39.37,138
  lines w5: -137.8,-137.8 138,-137.8 138,138 -137.8,138 -137.8,-137.8

## R0402 [mil] "R0402"
pads (2):
  rect 20x26 smd: 1(-15.75,0) 2(16,0)
Mechanical 16:
  rectangle: -21.81,-12 -10,12
  rectangle: 11,-12 22,12
  lines w6: -9.65,-8.82 10,-8.82 ; -9.65,9 10,9

## R0603 [mil] "R0603"
pads (2):
  rect 40x44 smd: 1(-33.46,0) 2(34,0)
Mechanical 6:
  rectangle: -7.87,-15.75 8,16
Mechanical 16:
  rectangle: 17,-17 33,17
  rectangle: -33,-17 -17,17
  lines w6: -17.01,-14.02 18,-14.02 ; -17.01,15 18,15
Mechanical 27:
  lines w2: -57.99,-38.7 58,-38.7 58,39 -57.99,39 -57.99,-38.7

## R0603_2 [mil]
pads (2):
  rect 27x40 smd: 1(-28.15,0) 2(29,0)
Mechanical 16:
  rectangle: -31.5,-15.75 -17.72,16
  rectangle: 18,-15.75 32,16
  lines w4: -28.54,-13.78 29,-13.78 ; -28.54,14 29,14

## RCL_C0603 [mil] "RCL_C0603"
pads (2):
  rect 44x40 smd: 1(-33.46,0) 2(34,0)
Mechanical 6:
  rectangle: -7.87,-11.81 8,12
Mechanical 16:
  rectangle: -32.97,-18.5 -13.29,19
  rectangle: 13,-18.5 33,19
  lines w4: -14.02,-16.5 15,-16.5 ; -14.02,18 15,18
Mechanical 27:
  lines w2: -57.99,-38.7 58,-38.7 58,39 -57.99,39 -57.99,-38.7

## SOD323-R [mil] "SOD323-R"
pads (2):
  rect 24x24 smd: A(44,0) C(-43.31,0)
Mechanical 16:
  rectangle: -27.56,-27.56 -19.68,28
  lines w6: -39.37,-27.56 40,-27.56 40,28 -39.37,28 -39.37,-27.56 ; -19.68,0 4,16 4,-15.75 -19.68,0

## SOT223R_INFINEON [mil] "SOT223R_INFINEON"
pads (4):
  rect 48x56 smd: 1(-90.98,-122.01) 2(0,-122.01) 3(91,-122.01)
  rect 138x56 smd: 4(0,123)
Top Overlay:
  lines w8: -129.02,-70 130,-70 130,70 -129.02,70 -129.02,-70
Mechanical 16:
  rectangle: -63,71 63,144
  rectangle: -17,-144 17,-71
  rectangle: -108,-144 -74,-71
  rectangle: 74,-144 108,-71
  rectangle: -63,71 63,144
  rectangle: -17,-144 17,-71
  rectangle: -108,-144 -74,-71
  rectangle: 74,-144 108,-71